# Altium footprint library polishing_machine.PcbLib: 6 footprints
Each footprint in its own frame and in the unit in brackets; x right, y up, seen from the top. Pads: shape width x height; smd on the part's side, far side on the other; paste and mask are expansions set on the pad; w line width, h text height; cw(c..) or ccw(c..) is an arc to the next point about the centre after c.
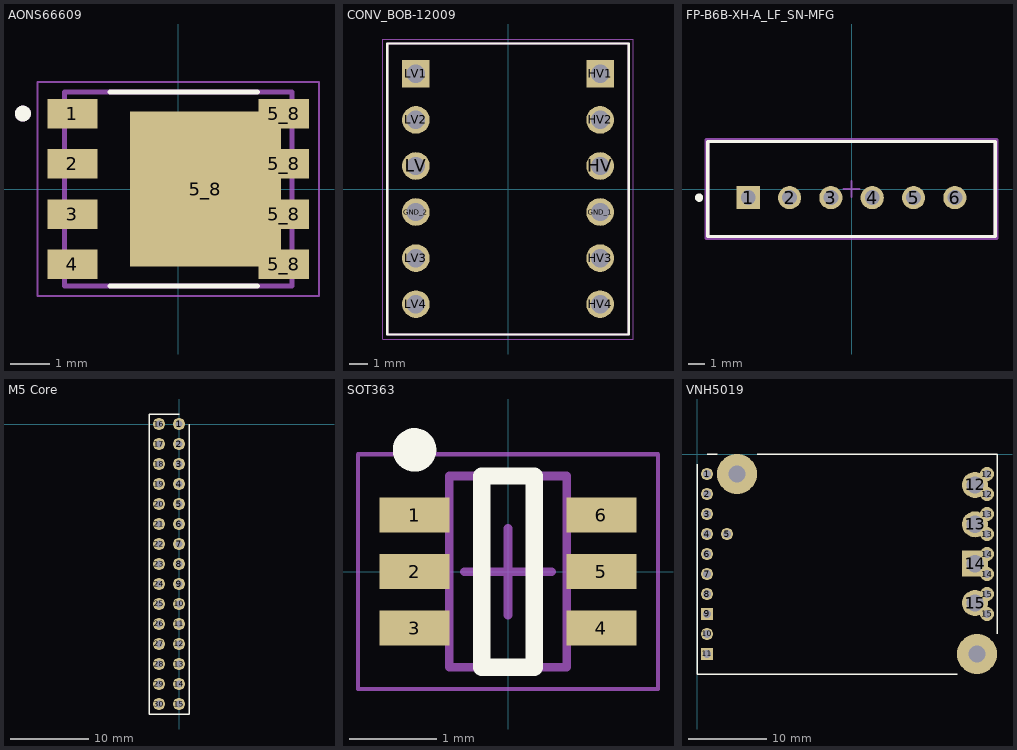
[diagram p0: the footprints below, top view; thin cyan lines are the x and y axes]

## AONS66609 [mm]
height 1.1
pads (9):
  rect 1.27x0.75 smd: 1(-2.67,1.905) 2(-2.67,0.635) 3(-2.67,-0.635) 4(-2.67,-1.905) 5_8(2.67,-1.905) 5_8(2.67,-0.635) 5_8(2.67,0.635) 5_8(2.67,1.905)
  rect 3.81x3.91 smd: 5_8(0.69,0)
Top Overlay:
  circle w0.2: c-3.92,1.905 r0.1
  lines w0.127: -1.715,-2.45 2,-2.45 ; -1.715,2.45 2,2.45
Top Paste:
  region: 0.455,0.235 -0.745,0.235 -0.745,1.485 0.455,1.485
  region: 2.125,0.235 0.925,0.235 0.925,1.485 2.125,1.485
  region: 2.125,-1.485 0.925,-1.485 0.925,-0.235 2.125,-0.235
  region: 0.455,-1.485 -0.745,-1.485 -0.745,-0.235 0.455,-0.235
  region: 3.31,1.525 2.6,1.525 2.6,2.285 3.31,2.285
  region: 3.31,0.255 2.6,0.255 2.6,1.015 3.31,1.015
  region: 3.31,-1.015 2.6,-1.015 2.6,-0.255 3.31,-0.255
  region: 3.31,-2.285 2.6,-2.285 2.6,-1.525 3.31,-1.525
Mechanical 13:
  circle w0.2: c-3.92,1.905 r0.1
  lines w0.127: -2.875,-2.45 -2.875,2.45 2.875,2.45 2.875,-2.45 -2.875,-2.45
Mechanical 15:
  lines w0.05: -3.555,-2.7 -3.555,2.7 3.56,2.7 3.56,-2.7 -3.555,-2.7
3D body "step_temp.STEP": height 1.1, standoff 0, extent -3,-2.45 3,2.45

## CONV_BOB-12009 [mil]
pads (12):
  round 60 hole 40: GND_1(200,-50) GND_2(-200,-50) HV(200,50) HV2(200,150) HV3(200,-150) HV4(200,-250) LV(-200,50) LV2(-200,150) LV3(-200,-150) LV4(-200,-250)
  rect 60x60 hole 40: HV1(200,250) LV1(-200,250)
Top Overlay:
  lines w5: -262.4,-315.94 -262.4,315.94 262.4,315.94 262.4,-315.94 -262.4,-315.94
Mechanical 13:
  lines w5: -262.4,-315.94 -262.4,315.94 262.4,315.94 262.4,-315.94 -262.4,-315.94
Mechanical 15:
  lines w1.97: -272.24,-325.79 272.24,-325.79 272.24,325.79 -272.24,325.79 -272.24,-325.79
3D body: height 393.7, standoff 314.96, extent -260,-315 260,315

## FP-B6B-XH-A_LF_SN-MFG [mm]
pads (6):
  rect 1.4x1.4 hole 0.9 paste-2539.97 mask+0: 1(-6.25,-0.525)
  round 1.4 hole 0.9 paste-2539.97 mask+0: 2(-3.75,-0.525) 3(-1.25,-0.525) 4(1.25,-0.525) 5(3.75,-0.525) 6(6.25,-0.525)
Top Overlay:
  circle w0.25: c-9.225,-0.525 r0.125
  lines w0.2: -8.7,-2.875 -8.7,2.875 8.7,2.875 8.7,-2.875 -8.7,-2.875
Top 3D Body:
  lines w0.2: -8.7,-2.875 -8.7,2.875 8.7,2.875 8.7,-2.875 -8.7,-2.875
Top Courtyard:
  lines w0.2: -8.8,-2.975 -8.8,2.975 8.8,2.975 8.8,-2.975 -8.8,-2.975
Top Assembly:
  lines w0.2: -8.8,-2.975 -8.8,2.975 8.8,2.975 8.8,-2.975 -8.8,-2.975
Top Component Center:
  lines w0.1: -0.5,0 0.5,0 ; 0,-0.5 0,0.5
3D body "Conn_JST_B6B-XH-A_LF_SN_eec.STEP": height 0.25, standoff 0, extent -8.8,-2.975 8.8,2.975

## M5 Core [mil]
pads (30):
  round 60 hole 35: 1(0,0) 2(0,-100) 3(0,-200) 4(0,-300) 5(0,-400) 6(0,-500) 7(0,-600) 8(0,-700) 9(0,-800) 10(0,-900) 11(0,-1000) 12(0,-1100) 13(0,-1200) 14(0,-1300) 15(0,-1400) 16(-100,0) 17(-100,-100) 18(-100,-200) 19(-100,-300) 20(-100,-400) 21(-100,-500) 22(-100,-600) 23(-100,-700) 24(-100,-800) 25(-100,-900) 26(-100,-1000) 27(-100,-1100) 28(-100,-1200) 29(-100,-1300) 30(-100,-1400)
Top Overlay:
  lines w7: 0,50 -150,50 -150,-1450 50,-1450 50,0
3D body: height 10, standoff 0, extent -150,-1450 50,50

## SOT363 [mm]
height 1.1
pads (6):
  rect 0.8x0.4 smd: 1(-1.075,0.65) 2(-1.075,0) 3(-1.075,-0.65) 4(1.075,-0.65) 5(1.075,0) 6(1.075,0.65)
Top Overlay:
  circle w0.25: c-1.075,1.4 r0.125
  lines w0.2: -0.3,-1.1 0.3,-1.1 0.3,1.1 -0.3,1.1 -0.3,-1.1
Mechanical 13:
  lines w0.1: -0.675,-1.1 -0.675,1.1 0.675,1.1 0.675,-1.1 -0.675,-1.1
Mechanical 15:
  lines w0.05: -1.725,-1.35 -1.725,1.35 1.725,1.35 1.725,-1.35 -1.725,-1.35
  lines w0.1: -0.5,0 0.5,0 ; 0,-0.5 0,0.5
3D body: height 1.1, standoff 0.1, extent -0.675,-1.1 0.675,1.1

## VNH5019 [mil]
pads (25):
  round 60 hole 40: 1(50,-100) 2(50,-200) 3(50,-300) 4(50,-400) 5(150,-400) 6(50,-500) 7(50,-600) 8(50,-700) 10(50,-900)
  rect 60x60 hole 40: 9(50,-800) 11(50,-1000)
  round 130 hole 86: 12(1390,-154.5) 13(1390,-351.5) 15(1390,-745.5)
  round 70 hole 40: 12(1450,-200) 12(1450,-100) 13(1450,-400) 13(1450,-300) 14(1450,-600) 14(1450,-500) 15(1450,-800) 15(1450,-700)
  rect 130x130 hole 86: 14(1390,-548.5)
  round 200 hole 86: ""(200,-100) ""(1400,-1000)
Top Overlay:
  lines w7: 0,-50 0,-1100 1300,-1100 ; 50,0 100,0 ; 300,0 1500,0 1500,-900
3D body "vnh5019-motor-driver-carrier.step": height 616.93, standoff 314.96, extent 0,-1100 1500,0